# EAGLE library part MS580301BA01-00 (library Sensors)
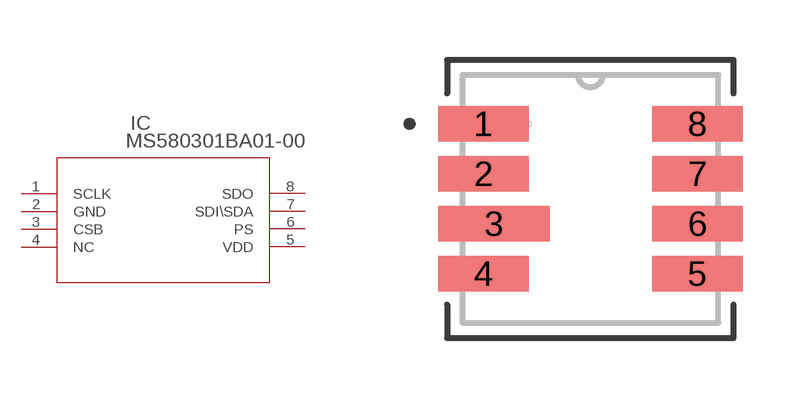
[diagram p10: symbol with the pads of MS5803-01BA01; footprint MS5803-01BA01]

Designator prefix IC

## MS580301BA01-00 (CATEGORY: Board Level Pressure Sensors; COPYRIGHT: Copyright (C) 2016 Accelerated Designs. All rights reserved; DATASHEET: https://www.te.com/commerce/DocumentDelivery/DDEController?Action=showdoc&DocId=Data+Sheet%7FMS5803-01BA%7FB3%7Fpdf%7FEnglish%7FENG_DS_MS5803-01BA_B3.pdf%7FMS580301BA01-00; DESCRIPTION: MS5803-01BA01 PRESSURE SENSOR TUBE; MANUFACTURER_PART_NUMBER: MS580301BA01-00; OUTPUT-SPAN: 24 bit ADC; PACKAGE: Surface Mountable; PART_STATUS: active; PRODUCT_DESCRIPTION: MS5803-01BA01 PRESSURE SENSOR TUBE; PRODUCT_TYPE: -; SENSOR_TYPE: Digital Pressure and Altimeter Sensor Modules; SERIES: MEAS MS5803; SUPPLY_VOLTAGE: 1.8  3.6; TE_PART_NUMBER: MS580301BA01-00; VENDOR: TE Connectivity)  [MS5803-01BA01]
1  SCLK  in
2  GND  pas
3  CSB  in
4  NC  nc
5  VDD  pwr
6  PS  in
7  SDI\SDA  in
8  SDO  out

## Footprint MS5803-01BA01 (pad centres in mm)
smd 2.261 x 0.889: 1 -2.675,1.875; 2 -2.675,0.625; 4 -2.675,-1.875; 5 2.675,-1.875; 6 2.675,-0.625; 7 2.675,0.625; 8 2.675,1.875
smd 2.794 x 0.889: 3 -2.408,-0.625